# Altium footprint library PcbLib1.PcbLib: 7 footprints
Each footprint in its own frame and in the unit in brackets; x right, y up, seen from the top. Pads: shape width x height; smd on the part's side, far side on the other; paste and mask are expansions set on the pad; w line width, h text height; cw(c..) or ccw(c..) is an arc to the next point about the centre after c.
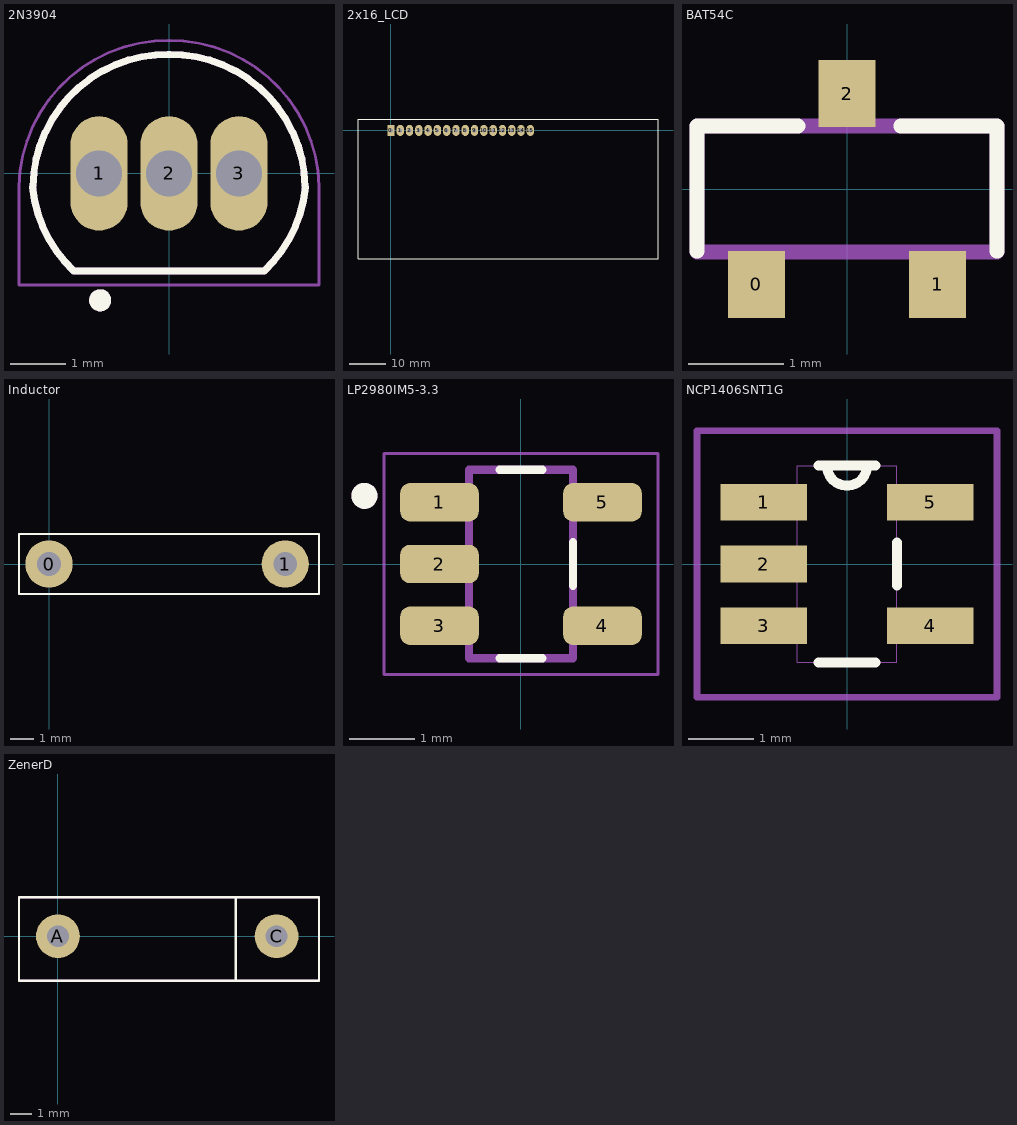
[diagram p0: the footprints below, top view; thin cyan lines are the x and y axes]

## 2N3904 [mm]
pads (3):
  oval 1.04x2.08 hole 0.84: 1(-1.27,0) 2(0,0) 3(1.27,0)
Top Overlay:
  circle w0.2: c-1.25,-2.305 r0.1
  lines w0.127: -2.476,-0.242 ccw(c-0.116,-0.036) -1.732,-1.769 ; -2.475,-0.24 cw(c-0.028,-0.282) 0.015,2.165 ; -1.725,-1.775 1.725,-1.775 ; -0.015,2.165 cw(c0.028,-0.282) 2.475,-0.24 ; 1.732,-1.769 ccw(c0.116,-0.036) 2.476,-0.242
Mechanical 13:
  circle w0.2: c-1.25,-2.305 r0.1
  lines w0.127: -2.476,-0.242 ccw(c-0.116,-0.036) -1.732,-1.769 ; -2.475,-0.24 cw(c-0.028,-0.282) 0.015,2.165 ; -1.725,-1.775 1.725,-1.775 ; -0.015,2.165 cw(c0.028,-0.282) 2.475,-0.24 ; 1.732,-1.769 ccw(c0.116,-0.036) 2.476,-0.242
Mechanical 15:
  lines w0.05: -2.725,-0.255 -2.725,-2.025 2.725,-2.025 2.725,-0.255 ; -2.725,-0.235 cw(c-0.028,-0.282) 0.02,2.415 ; -0.02,2.415 cw(c0.028,-0.282) 2.725,-0.235
3D body "2N3904.STEP": height 5.74, standoff -3.66, extent -2.395,-1.647 2.395,2.286

## 2x16_LCD [mm]
pads (16):
  rect 2x3 hole 1: 0(0,0)
  oval 2x3 hole 1: 1(2.54,0) 2(5.08,0) 3(7.62,0) 4(10.16,0) 5(12.7,0) 6(15.24,0) 7(17.78,0) 8(20.32,0) 9(22.86,0) 10(25.4,0) 11(27.94,0) 12(30.48,0) 13(33.02,0) 14(35.56,0) 15(38.1,0)
Top Overlay:
  lines w0.254: -9,-35 73,-35 73,3 -9,3 -9,-35
3D body "LCD-16X2-GREEN.STEP": height 12.4, standoff -4.5, extent -8.126,-33.587 71.874,2.213

## BAT54C [mm]
pads (3):
  rect 0.6x0.7 smd: 0(-0.95,-1) 1(0.95,-1) 2(0,1)
Top Overlay:
  lines w0.152: -1.572,-0.652 -1.572,0.66 -0.514,0.66 ; 0.564,0.66 1.572,0.66 1.572,-0.652
Mechanical 13:
  region: -0.711,-1.297 -1.17,-1.297 -1.17,-0.711 -0.711,-0.711
  region: 1.168,-1.296 0.711,-1.296 0.711,-0.711 1.168,-0.711
  region: 0.229,0.711 -0.229,0.711 -0.229,1.295 0.229,1.295
  lines w0.152: -1.572,-0.66 -1.572,0.66 1.572,0.66 1.572,-0.66 -1.572,-0.66
3D body "step_temp.STEP": height 1.1, standoff 0, extent -1,-1.05 1,1.05

## Inductor [mm]
pads (2):
  round 2 hole 1: 0(0,0) 1(10,0)
Top Overlay:
  lines w0.1: -1.27,-1.27 11.43,-1.27 11.43,1.27 -1.27,1.27 -1.27,-1.27
Mechanical 15:
  lines w0.1: -1.27,-1.27 11.43,-1.27 11.43,1.27 -1.27,1.27 -1.27,-1.27
3D body "INDAD1020W60L680D300 v1.step": height 3, standoff -2.4, extent -0.32,-1.491 10.48,1.5

## LP2980IM5-3.3 [mm]
pads (5):
  rrect50% 1.21x0.59 smd: 1(-1.255,0.95) 2(-1.255,0) 3(-1.255,-0.95) 4(1.255,-0.95) 5(1.255,0.95)
Top Overlay:
  circle w0.2: c-2.41,1.05 r0.1
  lines w0.127: -0.33,-1.45 0.33,-1.45 ; -0.33,1.45 0.33,1.45 ; 0.8,-0.335 0.8,0.335
Mechanical 13:
  circle w0.2: c-2.41,1.05 r0.1
  lines w0.127: -0.8,-1.45 -0.8,1.45 0.8,1.45 0.8,-1.45 -0.8,-1.45
Mechanical 15:
  lines w0.05: -2.11,-1.7 2.11,-1.7 2.11,1.7 -2.11,1.7 -2.11,-1.7
3D body "step_temp.STEP": height 1.45, standoff 0, extent -1.4,-1.45 1.4,1.45

## NCP1406SNT1G [mil]
pads (5):
  rect 52x22 smd: 1(-50,37) 2(-50,0) 3(-50,-37) 4(50,-37) 5(50,37)
Top Overlay:
  lines w6: -17,-59 17,-59 ; -17,59 -12,59 ; 17,59 12,59 ; 30,-13 30,13 ; -12,59 ccw(c0,59) 12,59 ; -12,59 12,59
Mechanical 13:
  lines w0: -30,-47 -30,-59 30,-59 30,-47 ; -30,-47 -30,-28 ; -30,-47 -59,-47 -59,-28 -30,-28 ; -30,-28 -30,-10 ; -30,-10 -30,10 ; -30,-10 -59,-10 -59,10 -30,10 ; -30,10 -30,28 ; -30,28 -30,47 ; -30,28 -59,28 -59,47 -30,47 ; -30,47 -30,59 -12,59 ; -12,59 ccw(c0,59) 12,59 ; -12,59 12,59 ; 12,59 30,59 30,47 ; 30,-47 30,-28 ; 30,-47 59,-47 59,-28 30,-28 ; 30,-28 30,28 ; 30,28 30,47 ; 30,28 59,28 59,47 30,47
Mechanical 15:
  lines w3.94: -90,-80 -90,80 90,80 90,-80 -90,-80
3D body "MC74VHC1G32DTT1G.STEP": height 43.31, standoff 0, extent -52.95,-59.06 55.31,59.06

## ZenerD [mm]
pads (2):
  round 2 hole 1: A(0,0) C(10,0)
Top Overlay:
  lines w0.1: 8.128,-2.032 8.128,1.778 ; -1.778,-2.032 -1.778,1.778 11.938,1.778 11.938,-2.032 -1.778,-2.032
Mechanical 15:
  lines w0.1: -1.778,-2.032 -1.778,1.778 1.651,1.778 8.509,1.778 11.938,1.778 11.938,-2.032 -1.778,-2.032
3D body "Zener Diode.step": height 2.5, standoff -3, extent -0.35,-1.27 10.51,1.22